# Altium schematic symbol library JumpGPIO.SchLib: 1 symbol
Pins are listed as number, name and electrical type; pins without a type are passive.

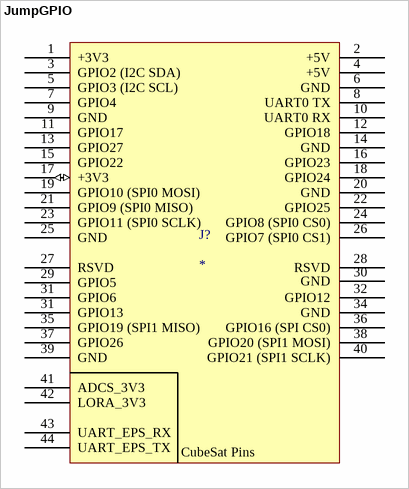
[diagram p0: symbol JumpGPIO]

## JumpGPIO
designator J?
pins: 1 +3V3, 2 +5V, 3 GPIO2 (I2C SDA), 4 +5V, 5 GPIO3 (I2C SCL), 6 GND, 7 GPIO4, 8 UART0 TX, 9 GND, 10 UART0 RX, 11 GPIO17, 12 GPIO18, 13 GPIO27, 14 GND, 15 GPIO22, 16 GPIO23, 17 +3V3 (io), 18 GPIO24, 19 GPIO10 (SPI0 MOSI), 20 GND, 21 GPIO9 (SPI0 MISO), 22 GPIO25, 23 GPIO11 (SPI0 SCLK), 24 GPIO8 (SPI0 CS0), 25 GND, 26 GPIO7 (SPI0 CS1), 27 RSVD, 28 RSVD, 29 GPIO5, 30 GND, 31 GPIO6, 31 GPIO13, 32 GPIO12, 34 GND, 35 GPIO19 (SPI1 MISO), 36 GPIO16 (SPI CS0), 37 GPIO26, 38 GPIO20 (SPI1 MOSI), 39 GND, 40 GPIO21 (SPI1 SCLK), 41 ADCS_3V3, 42 LORA_3V3, 43 UART_EPS_RX , 44 UART_EPS_TX
text: CubeSat Pins